# Altium schematic symbol library Schlib2.SchLib: 4 symbols
Pins are listed as number, name and electrical type; pins without a type are passive.

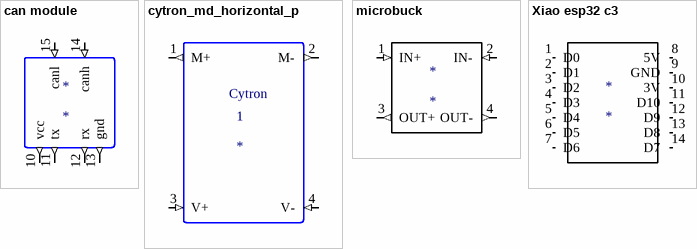
[diagram p0: symbols can module to Xiao esp32 c3]

## can module
designator *
pins: 10 vcc (out), 11 tx (out), 12 rx (out), 13 gnd (out), 14 canh (in), 15 canl (in)

## cytron_md_horizontal_p
designator 1
footprint Cytron_md; pin to pad 1>45 2>46 3>43 4>44
pins: 1 M+ (out), 2 M- (out), 3 V+ (in), 4 V- (in)
text: Cytron

## microbuck
designator *
footprint Micro buck
pins: 1 IN+ (in), 2 IN- (in), 3 OUT+ (out), 4 OUT- (out)

## Xiao esp32 c3
designator *
footprint Xiao esp32c3
pins: 1 D0, 2 D1, 3 D2, 4 D3, 5 D4, 6 D5, 7 D6, 8 5V, 9 GND, 10 3V, 11 D10, 12 D9, 13 D8, 14 D7